# EAGLE library part X_RELAY (library solderlessPCB v164)
Relay Signal 2FormC 3V 10uA Source: Datasheet <https://api.kemet.com/component-edge/download/datasheet/EE2-3TNU-L.pdf>
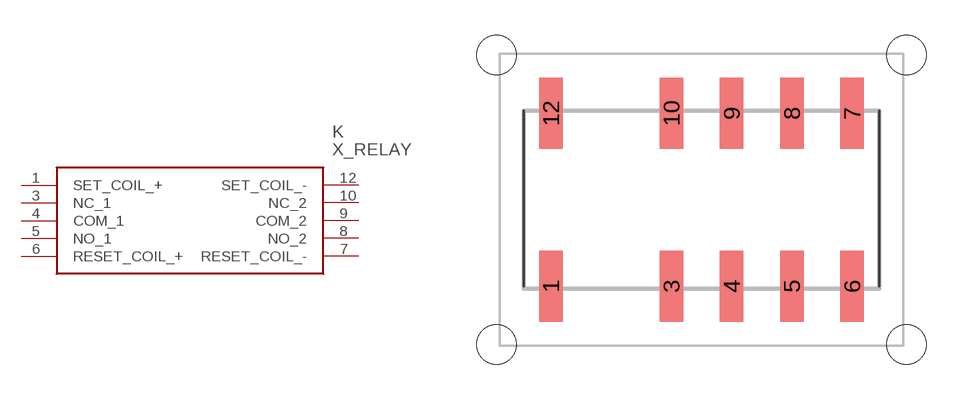
[diagram p6: symbol with the pads of RELAY; footprint RELAY]

Designator prefix K

## X_RELAY (ARROW_PART_NUMBER: EE2-3TNU-L; ARROW_PRICE-STOCK: https://www.arrow.com/en/products/ee2-3tnu-l/kemet-corporation?region=nac; DESCRIPTION: Relay Signal 2FormC 3V 10uA; HEIGHT: 10mm; MANUFACTURER_NAME: KEMET; MANUFACTURER_PART_NUMBER: EE2-3TNU-L; MOUSER_PART_NUMBER: 80-EE2-3TNU-L; MOUSER_PRICE-STOCK: https://www.mouser.co.uk/ProductDetail/KEMET/EE2-3TNU-L?qs=iaWy59%2Fd4KApf0o4kYK3jQ%3D%3D)  [RELAY]
1  SET_COIL_+
3  NC_1
4  COM_1
5  NO_1
6  RESET_COIL_+
7  RESET_COIL_-
8  NO_2
9  COM_2
10  NC_2
12  SET_COIL_-

## Footprint RELAY (pad centres in mm)
EE2-5TNU-2
smd 1 x 3: 1 -6.35,-3.645; 3 -1.27,-3.645; 4 1.27,-3.645; 5 3.81,-3.645; 6 6.35,-3.645; 7 6.35,3.645; 8 3.81,3.645; 9 1.27,3.645; 10 -1.27,3.645; 12 -6.35,3.645
hole 1.65 at 8.636,6.096
hole 1.65 at -8.636,6.096
hole 1.65 at -8.636,-6.096
hole 1.65 at 8.636,-6.096